# Altium schematic symbol library Microcontrollers.SchLib: 4 symbols
Pins are listed as number, name and electrical type; pins without a type are passive.

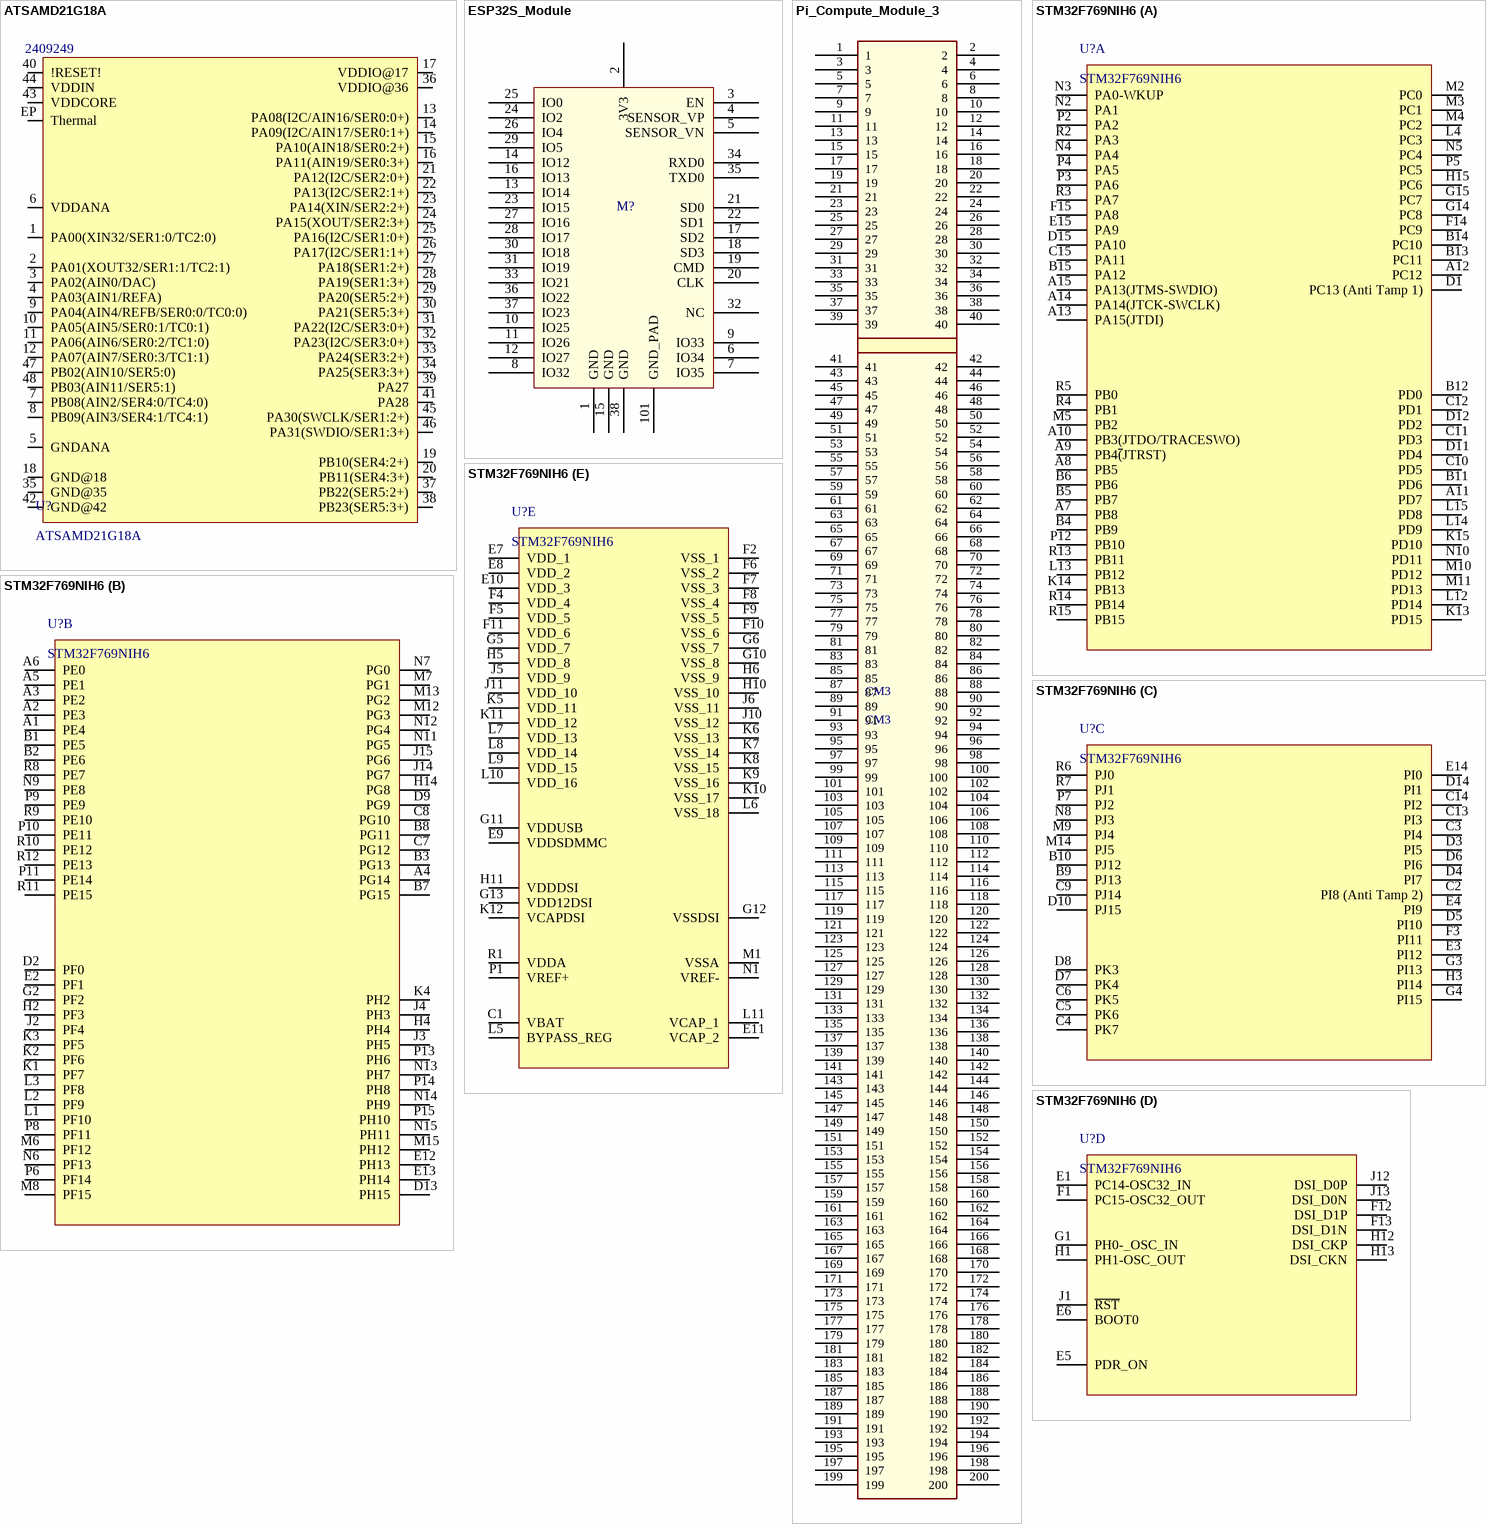
[diagram p0: symbols ATSAMD21G18A to STM32F769NIH6]

## ATSAMD21G18A
designator U?  Supplier Part Number 1: 2409249
Amtel 32 bit ARM uC; Supplier 1: Farnell
footprint Micro-QFN-48 (QFN-48 Package)
pins: 1 PA00(XIN32/SER1:0/TC2:0), 2 PA01(XOUT32/SER1:1/TC2:1), 3 PA02(AIN0/DAC), 4 PA03(AIN1/REFA), 5 GNDANA, 6 VDDANA, 7 PB08(AIN2/SER4:0/TC4:0), 8 PB09(AIN3/SER4:1/TC4:1), 9 PA04(AIN4/REFB/SER0:0/TC0:0), 10 PA05(AIN5/SER0:1/TC0:1), 11 PA06(AIN6/SER0:2/TC1:0), 12 PA07(AIN7/SER0:3/TC1:1), 13 PA08(I2C/AIN16/SER0:0+), 14 PA09(I2C/AIN17/SER0:1+), 15 PA10(AIN18/SER0:2+), 16 PA11(AIN19/SER0:3+), 17 VDDIO@17, 18 GND@18, 19 PB10(SER4:2+), 20 PB11(SER4:3+), 21 PA12(I2C/SER2:0+), 22 PA13(I2C/SER2:1+), 23 PA14(XIN/SER2:2+), 24 PA15(XOUT/SER2:3+), 25 PA16(I2C/SER1:0+), 26 PA17(I2C/SER1:1+), 27 PA18(SER1:2+), 28 PA19(SER1:3+), 29 PA20(SER5:2+), 30 PA21(SER5:3+), 31 PA22(I2C/SER3:0+), 32 PA23(I2C/SER3:0+), 33 PA24(SER3:2+), 34 PA25(SER3:3+), 35 GND@35, 36 VDDIO@36, 37 PB22(SER5:2+), 38 PB23(SER5:3+), 39 PA27, 40 !RESET!, 41 PA28, 42 GND@42, 43 VDDCORE, 44 VDDIN, 45 PA30(SWCLK/SER1:2+), 46 PA31(SWDIO/SER1:3+), 47 PB02(AIN10/SER5:0), 48 PB03(AIN11/SER5:1), EP Thermal

## ESP32S_Module
designator M?  (value not drawn)
Esp-32S; Datasheet: https://espressif.com/sites/default/files/documentation/esp_wroom_32_datasheet_en.pdf
footprint ESP32S (ESP32S-Module)
footprint ESP32S_W (Esp32S Module wide for hand soldering)
pins: 1 GND (power), 2 3V3 (power), 3 EN (power), 4 SENSOR_VP, 5 SENSOR_VN, 6 IO34, 7 IO35, 8 IO32, 9 IO33, 10 IO25, 11 IO26, 12 IO27, 13 IO14, 14 IO12, 15 GND (power), 16 IO13, 17 SD2, 18 SD3, 19 CMD, 20 CLK, 21 SD0, 22 SD1, 23 IO15, 24 IO2, 25 IO0, 26 IO4, 27 IO16, 28 IO17, 29 IO5, 30 IO18, 31 IO19, 32 NC, 33 IO21, 34 RXD0, 35 TXD0, 36 IO22, 37 IO23, 38 GND (power), 101 GND_PAD (power)

## Pi_Compute_Module_3
designator CM3, comment CM3
footprint SODIMM_200_RighAngle
pins: 1, 2, 3, 4, 5, 6, 7, 8, 9, 10, 11, 12, 13, 14, 15, 16, 17, 18, 19, 20, 21, 22, 23, 24, 25, 26, 27, 28, 29, 30, 31, 32, 33, 34, 35, 36, 37, 38, 39, 40, 41, 42, 43, 44, 45, 46, 47, 48, 49, 50, 51, 52, 53, 54, 55, 56, 57, 58, 59, 60, 61, 62, 63, 64, 65, 66, 67, 68, 69, 70, 71, 72, 73, 74, 75, 76, 77, 78, 79, 80, 81, 82, 83, 84, 85, 86, 87, 88, 89, 90, 91, 92, 93, 94, 95, 96, 97, 98, 99, 100, 101, 102, 103, 104, 105, 106, 107, 108, 109, 110, 111, 112, 113, 114, 115, 116, 117, 118, 119, 120, 121, 122, 123, 124, 125, 126, 127, 128, 129, 130, 131, 132, 133, 134, 135, 136, 137, 138, 139, 140, 141, 142, 143, 144, 145, 146, 147, 148, 149, 150, 151, 152, 153, 154, 155, 156, 157, 158, 159, 160, 161, 162, 163, 164, 165, 166, 167, 168, 169, 170, 171, 172, 173, 174, 175, 176, 177, 178, 179, 180, 181, 182, 183, 184, 185, 186, 187, 188, 189, 190, 191, 192, 193, 194, 195, 196, 197, 198, 199, 200

## STM32F769NIH6
designator U?
ARM Microcontrollers - MCU High-performance and DSP with FPU, Arm Cortex-M7 MCU with 2 Mbytes Flash, 216 MHz CPU, Art Accelerator, L1 cache, SDRAM, TFT, MIPI-DSI, JPEG codec, DFSDM; Supplier 1: Farnell; Supplier 2: RSComponents; Supplier 3: Mouser; Supplier Part Number 1: 2535502; Supplier Part Number 2: 1116472; Supplier Part Number 3: 511-STM32F769NIH6
footprint STM32F769NIH6 (ARM Microcontrollers Cortex-M7)
part A pins: A7 PB8, A8 PB5, A9 PB4~{(}JTRST), A10 PB3(JTDO/TRACESWO), A11 PD7, A12 PC12, A13 PA15(JTDI), A14 PA14(JTCK-SWCLK), A15 PA13(JTMS-SWDIO), B4 PB9, B5 PB7, B6 PB6, B11 PD6, B12 PD0, B13 PC11, B14 PC10, B15 PA12, C10 PD5, C11 PD3, C12 PD1, C15 PA11, D1 PC13 (Anti Tamp 1), D11 PD4, D12 PD2, D15 PA10, E15 PA9, F14 PC9, F15 PA8, G14 PC8, G15 PC7, H15 PC6, K13 PD15, K14 PB13, K15 PD10, L4 PC3, L12 PD14, L13 PB12, L14 PD9, L15 PD8, M2 PC0, M3 PC1, M4 PC2, M5 PB2, M10 PD12, M11 PD13, N2 PA1, N3 PA0-WKUP, N4 PA4, N5 PC4, N10 PD11, P2 PA2, P3 PA6, P4 PA5, P5 PC5, P12 PB10, R2 PA3, R3 PA7, R4 PB1, R5 PB0, R13 PB11, R14 PB14, R15 PB15
part B pins: A1 PE4, A2 PE3, A3 PE2, A4 PG14, A5 PE1, A6 PE0, B1 PE5, B2 PE6, B3 PG13, B7 PG15, B8 PG11, C7 PG12, C8 PG10, D2 PF0, D9 PG9, D13 PH15, E2 PF1, E12 PH13, E13 PH14, G2 PF2, H2 PF3, H4 PH4, H14 PG8, J2 PF4, J3 PH5, J4 PH3, J14 PG7, J15 PG6, K1 PF7, K2 PF6, K3 PF5, K4 PH2, L1 PF10, L2 PF9, L3 PF8, M6 PF12, M7 PG1, M8 PF15, M12 PG3, M13 PG2, M15 PH12, N6 PF13, N7 PG0, N9 PE8, N11 PG5, N12 PG4, N13 PH7, N14 PH9, N15 PH11, P6 PF14, P8 PF11, P9 PE9, P10 PE11, P11 PE14, P13 PH6, P14 PH8, P15 PH10, R8 PE7, R9 PE10, R10 PE12, R11 PE15, R12 PE13
part C pins: B9 PJ13, B10 PJ12, C2 PI8 (Anti Tamp 2), C3 PI4, C4 PK7, C5 PK6, C6 PK5, C9 PJ14, C13 PI3, C14 PI2, D3 PI5, D4 PI7, D5 PI10, D6 PI6, D7 PK4, D8 PK3, D10 PJ15, D14 PI1, E3 PI12, E4 PI9, E14 PI0, F3 PI11, G3 PI13, G4 PI15, H3 PI14, M9 PJ4, M14 PJ5, N8 PJ3, P7 PJ2, R6 PJ0, R7 PJ1
part D pins: E1 PC14-OSC32_IN, E5 PDR_ON, E6 BOOT0, F1 PC15-OSC32_OUT, F12 DSI_D1P, F13 DSI_D1N, G1 PH0-_OSC_IN, H1 PH1-OSC_OUT, H12 DSI_CKP, H13 DSI_CKN, J1 ~{RST}, J12 DSI_D0P, J13 DSI_D0N
part E pins: C1 VBAT, E7 VDD_1, E8 VDD_2, E9 VDDSDMMC, E10 VDD_3, E11 VCAP_2, F2 VSS_1, F4 VDD_4, F5 VDD_5, F6 VSS_2, F7 VSS_3, F8 VSS_4, F9 VSS_5, F10 VSS_6, F11 VDD_6, G5 VDD_7, G6 VSS_7, G10 VSS_8, G11 VDDUSB, G12 VSSDSI, G13 VDD12DSI, H5 VDD_8, H6 VSS_9, H10 VSS_10, H11 VDDDSI, J5 VDD_9, J6 VSS_11, J10 VSS_12, J11 VDD_10, K5 VDD_11, K6 VSS_13, K7 VSS_14, K8 VSS_15, K9 VSS_16, K10 VSS_17, K11 VDD_12, K12 VCAPDSI, L5 BYPASS_REG, L6 VSS_18, L7 VDD_13, L8 VDD_14, L9 VDD_15, L10 VDD_16, L11 VCAP_1, M1 VSSA, N1 VREF-, P1 VREF+, R1 VDDA